# EAGLE library part NUTUBE_6P1_GND (library wheat)
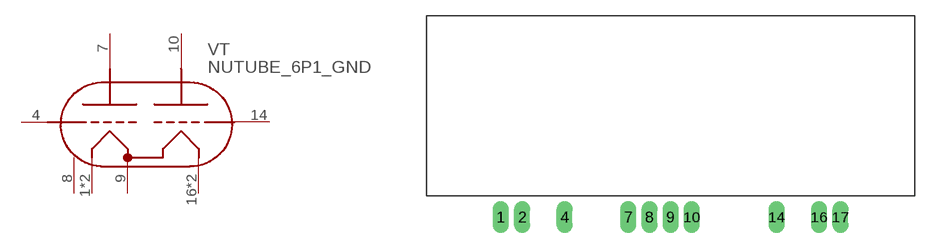
[diagram p269: symbol with the pads of NUTUBE_6P1; footprint NUTUBE_6P1]

Designator prefix VT

## NUTUBE_6P1_GNDVT  [NUTUBE_6P1]
1  F1  pas
2  F1  pas
4  G1  pas
7  A1  pas
8  GNB  pas
9  FCT  pas
10  A2  pas
14  G2  pas
16  F2  pas
17  F2  pas

## Footprint NUTUBE_6P1 (pad centres in mm)
drill 0.991 long: 1 -16,0; 2 -14,0; 4 -10,0; 7 -4,0; 8 -2,0; 9 0,0; 10 2,0; 14 10,0; 16 14,0; 17 16,0